# Altium integrated library PCB_Project_Hall_Sensor.IntLib: 5 symbols
Pins are listed as number, name and electrical type; pins without a type are passive.

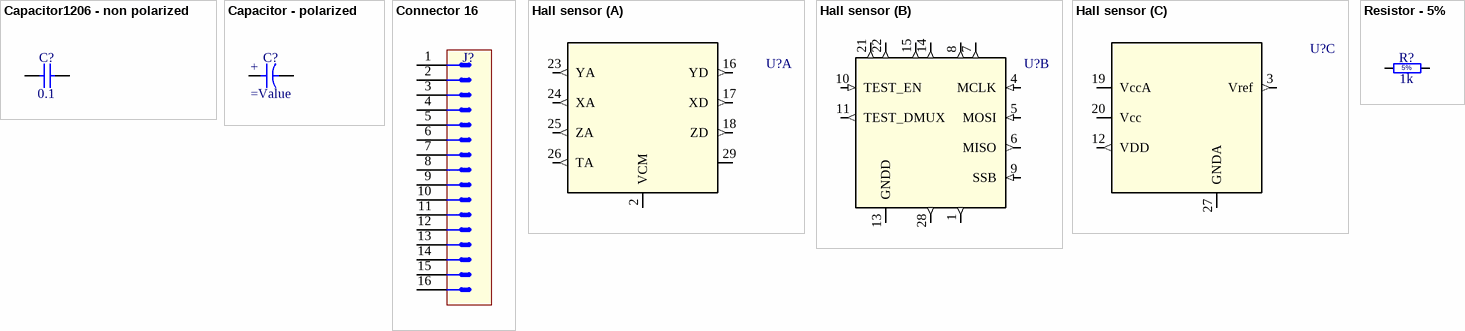
[diagram p0: symbols Capacitor1206 - non polarized to Resistor - 5%]

## Capacitor1206 - non polarized
designator C?, comment 0.1
Non-polarised1206 capacitor; SolderOption: 0; SMD Solders: 2; Dielectric type: X5R; Vendor: any; Value: 0.1; THD Solders: 0
footprint CAPC3216X100N (Chip Capacitor, Body 3.2x1.6mm, IPC Medium Density)
pins: 1, 2

## Capacitor - polarized
designator C?
Polarised capacitor; SMD Solders: 2; SolderOption: 0; Parameter 2: *; THD Solders: 0; Vendor: *
footprint CAPMP3528X120N (Capacitor, Polarized, Molded  Body 3.5x2.8mm, IPC Medium Density)
pins: 1, 2
text: +

## Connector 16
designator J?
Connector 16; Solder Option: 0; THD Solders: 16; SMD Solders: 0; Vendor: *; Value: *
footprint 3M_N2516-5002RB (16 Contacts - Right Angle .100" x .100" Low Profile Four-Wall Header)
pins: 1, 2, 3, 4, 5, 6, 7, 8, 9, 10, 11, 12, 13, 14, 15, 16
1 alternate drawing of the same symbol

## Hall sensor
designator U?  (value not drawn)
SENM3Dx Vertical Hall Sensor
footprint QFN50P500X500X100-29N-S325 (QFN, 0.50mm Pitch, Square; 28 pin, 5.00mm L X 5.00mm W X 1.00mm H body (w/thermal tab 3.25 X 3.25mm),  IPC Medium Density)
part A pins: 2 VCM (power), 16 YD (out), 17 XD (out), 18 ZD (out), 23 YA (out), 24 XA (out), 25 ZA (out), 26 TA (out), 29
part B pins: 1 (out), 4 MCLK (in), 5 MOSI (in), 6 MISO (out), 7 (out), 8 (out), 9 SSB (in), 10 TEST_EN (in), 11 TEST_DMUX (out), 13 GNDD (power), 14 (out), 15 (out), 21 (out), 22 (out), 28 (out)
part C pins: 3 Vref (out), 12 VDD (out), 19 VccA (power), 20 Vcc (power), 27 GNDA (power)

## Resistor - 5%
designator R?, comment 1k
Resistor - 5%; Vendor: any; SMD Solders: 2; THD Solders: 0; TK: 1000ppmC^(-1); Value: 1k; SolderOption: 0; Tolerance: 5%
footprint RESC2012X70N (Chip Resistor, EIA 0805, Metric 2012, Body 2.0x1.25mm, IPC Medium Density)
pins: 1, 2